# EAGLE library part LTC3119 (library all-chips)
LTC3119 Analog Devices Buck-Boost DC/DC Converter 18V, 5A Synchronous
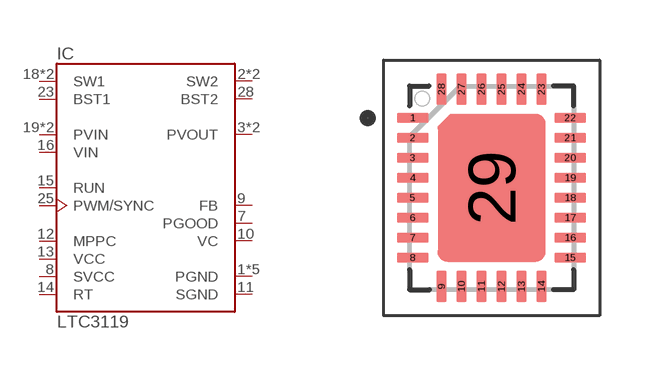
[diagram p0: symbol with the pads of QFN28_5.00X4.00MM; footprint QFN28_5.00X4.00MM]

Designator prefix IC

## LTC3119*UFD  [QFN28_5.00X4.00MM]
1  PGND  pwr
2  SW2  pwr
3  PVOUT  pwr
4  PVOUT  pwr
5  SW2  pwr
6  PGND  pwr
7  PGOOD  out
8  SVCC  pwr
9  FB  in
10  VC  out
11  SGND  pwr
12  MPPC  in
13  VCC  pwr
14  RT  in
15  RUN  in
16  VIN  pwr
17  PGND  pwr
18  SW1  pwr
19  PVIN  pwr
20  PVIN  pwr
21  SW1  pwr
22  PGND  pwr
23  BST1
25  PWM/SYNC  in
28  BST2
29  PGND  pwr

## Footprint QFN28_5.00X4.00MM (pad centres in mm)
https://www.analog.com/media/en/package-pcb-resources/package/pkg_pdf/ltc-legacy-qfn/05081712_C_UFD28.pdf
smd 0.79 x 0.26: 1 -1.97,1.75; 2 -1.97,1.25; 3 -1.97,0.75; 4 -1.97,0.25; 5 -1.97,-0.25; 6 -1.97,-0.75; 7 -1.97,-1.25; 8 -1.97,-1.75; 15 1.97,-1.75; 16 1.97,-1.25; 17 1.97,-0.75; 18 1.97,-0.25; 19 1.97,0.25; 20 1.97,0.75; 21 1.97,1.25; 22 1.97,1.75
smd 0.26 x 0.79: 9 -1.25,-2.47; 10 -0.75,-2.47; 11 -0.25,-2.47; 12 0.25,-2.47; 13 0.75,-2.47; 14 1.25,-2.47; 23 1.25,2.47; 24 0.75,2.47; 25 0.25,2.47; 26 -0.25,2.47; 27 -0.75,2.47; 28 -1.25,2.47
smd 2.15 x 3.15: 29 0,0